# Altium integrated library Rohm-SML-D12.IntLib: 5 symbols
Pins are listed as number, name and electrical type; pins without a type are passive.

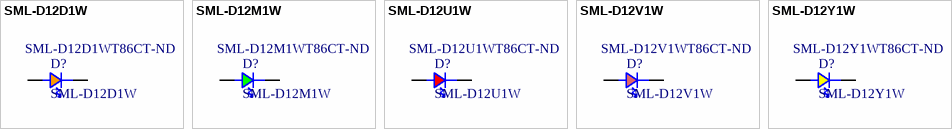
[diagram p0: symbols SML-D12D1W to SML-D12Y1W]

## SML-D12D1W
designator D?  Supplier Part Number 1: SML-D12D1WT86CT-ND
Rohm Semiconductor, 0603 SMD LED, ORANGE / Forward voltage: 2.2V / Abs Max Forward current: 20mA; Supplier 1: Digi-Key
footprint SML-D12x1 (Rohm Semiconductor 0603 SMD LED)
pins: 1 A, 2 K

## SML-D12M1W
designator D?  Supplier Part Number 1: SML-D12M1WT86CT-ND
Rohm Semiconductor, 0603 SMD LED, GREEN-YELLOW / Forward voltage: 2.2V / Abs Max Forward current: 20mA; Supplier 1: Digi-Key
footprint SML-D12x1 (Rohm Semiconductor 0603 SMD LED)
pins: 1 A, 2 K

## SML-D12U1W
designator D?  Supplier Part Number 1: SML-D12U1WT86CT-ND
Rohm Semiconductor, 0603 SMD LED, RED / Forward voltage: 2.2V / Abs Max Forward current: 20mA; Supplier 1: Digi-Key
footprint SML-D12x1 (Rohm Semiconductor 0603 SMD LED)
pins: 1 A, 2 K

## SML-D12V1W
designator D?  Supplier Part Number 1: SML-D12V1WT86CT-ND
Rohm Semiconductor, 0603 SMD LED, RED / Forward voltage: 2.2V / Abs Max Forward current: 20mA; Supplier 1: Digi-Key
footprint SML-D12x1 (Rohm Semiconductor 0603 SMD LED)
pins: 1 A, 2 K

## SML-D12Y1W
designator D?  Supplier Part Number 1: SML-D12Y1WT86CT-ND
Rohm Semiconductor, 0603 SMD LED, YELLOW / Forward voltage: 2.2V / Abs Max Forward current: 20mA; Supplier 1: Digi-Key
footprint SML-D12x1 (Rohm Semiconductor 0603 SMD LED)
pins: 1 A, 2 K